# Altium footprint library OnShoreG.PcbLib: 7 footprints
Each footprint in its own frame and in the unit in brackets; x right, y up, seen from the top. Pads: shape width x height; smd on the part's side, far side on the other; paste and mask are expansions set on the pad; w line width, h text height; cw(c..) or ccw(c..) is an arc to the next point about the centre after c.
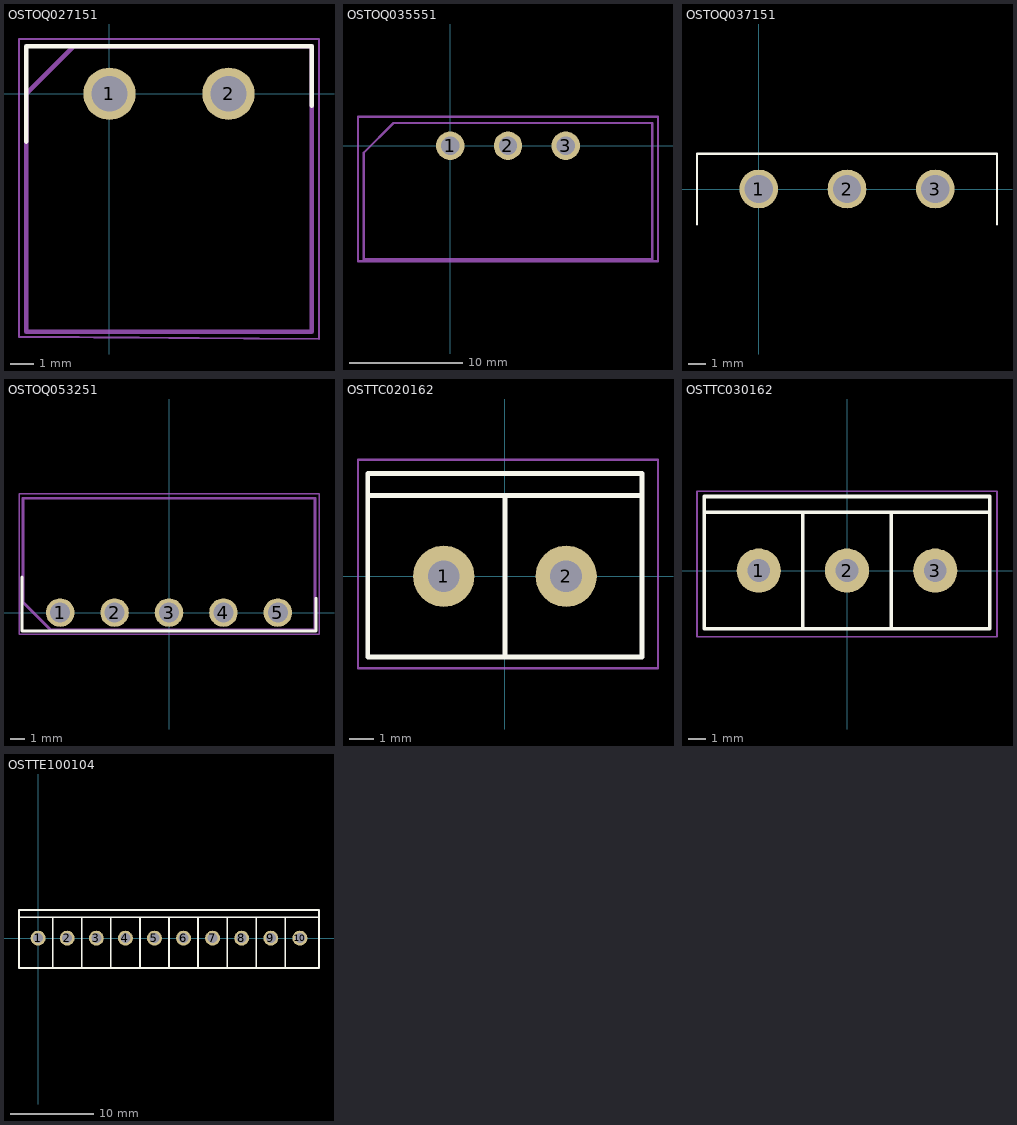
[diagram p0: the footprints below, top view; thin cyan lines are the x and y axes]

## OSTOQ027151 [mm] "Terminal Block Header 5mm"
height 8.5
pads (2):
  round 2.2 hole 1.5: 1(0,0) 2(5,0)
Top Overlay:
  lines w0.2: -3.5,-2 -3.5,2 8.5,2 8.5,-0.5
Assembly:
  lines w0.2: -3.5,-10 8.5,-10 8.5,2 -1.5,2 -3.5,0 -3.5,-10
Courtyard:
  lines w0.1: -3.8,-10.2 -3.8,2.3 8.8,2.3 8.8,-10.3 -3.8,-10.2
3D body: height 8.5, standoff -4, extent -3.5,-10 8.5,2

## OSTOQ035551 [mm] "Terminal block 3pos 200mil with flange"
pads (3):
  round 2.5 hole 1.6: 1(0,0) 2(5.08,0) 3(10.16,0)
Assembly:
  lines w0.2: 17.75,-10 -7.62,-10 -7.62,-0.62 -5,2 17.78,2 17.78,-10
Courtyard:
  lines w0.2: -8.128,-10.16 18.288,-10.16 18.288,2.54 -8.128,2.54 -8.128,-10.16
3D body: height 8.5, standoff 0, extent -7.62,-10 17.78,2

## OSTOQ037151 [mm] "Terminal Block Header 5mm"
height 8.5
pads (3):
  round 2.2 hole 1.6: 1(0,0) 2(5,0) 3(10,0)
Top Overlay:
  lines w0.127: -3.5,-2 -3.5,2 13.5,2 13.5,-2
3D body: height 8.5, standoff -4, extent -3.5,-10 13.5,2

## OSTOQ053251 [mm]
height 7
pads (5):
  round 2 hole 1.4: 1(-7.62,0) 2(-3.81,0) 3(0,0) 4(3.81,0) 5(7.62,0)
Top Overlay:
  lines w0.2: -10.3,2.5 -10.3,-1.3 10.3,-1.3 10.3,1
Assembly:
  lines w0.2: -10.22,0.72 -8.3,-1.2 10.22,-1.2 10.22,8 -10.22,8 -10.22,0.72
Courtyard:
  lines w0.1: -10.5,-1.5 10.5,-1.5 10.5,8.3 -10.5,8.3 -10.5,-1.5
3D body: height 7, standoff 0, extent -10.22,-1.2 10.22,8

## OSTTC020162 [mm]
height 9.9
pads (2):
  round 2.5 hole 1.3: 1(-2.5,0) 2(2.5,0)
Top Overlay:
  lines w0.2: -5.6,3.3 5.6,3.3 ; 0,-3.3 0,3.3 ; -5.6,-3.3 5.6,-3.3 5.6,4.2 -5.6,4.2 -5.6,-3.3
Courtyard:
  lines w0.1: -6,-3.75 6.25,-3.75 6.25,4.75 -6,4.75 -6,-3.75

## OSTTC030162 [mm]
height 9.9
pads (3):
  round 2.5 hole 1.3: 1(-5,0) 2(0,0) 3(5,0)
Top Overlay:
  lines w0.2: -8.1,3.3 8.1,3.3 ; -2.5,-3.3 -2.5,3.3 ; 2.5,-3.3 2.5,3.3 ; -8.1,-3.3 -8.1,4.2 8.1,4.2 8.1,-3.3 -8.1,-3.3
Courtyard:
  lines w0.1: -8.5,-3.75 -8.5,4.5 8.5,4.5 8.5,-3.75 -8.5,-3.75

## OSTTE100104 [mm]
height 8.4
pads (10):
  round 1.8 hole 1.2: 1(0,0) 2(3.5,0) 3(7,0) 4(10.5,0) 5(14,0) 6(17.5,0) 7(21,0) 8(24.5,0) 9(28,0) 10(31.5,0)
Top Overlay:
  lines w0.203: -2.3,2.5 33.7,2.5 ; 1.75,-3.6 1.75,2.5 ; 5.25,-3.6 5.25,2.5 ; 8.75,-3.6 8.75,2.5 ; 12.25,-3.6 12.25,2.5 ; 15.75,-3.6 15.75,2.5 ; 19.25,-3.6 19.25,2.5 ; 22.75,-3.6 22.75,2.5 ; 26.25,-3.6 26.25,2.5 ; 29.75,-3.6 29.75,2.5 ; -2.3,-3.6 -2.3,3.4 33.8,3.4 33.8,-3.6 -2.3,-3.6
3D body: height 8.4, standoff 0, extent -2.3,-3.6 33.8,3.4